# EAGLE library part CD4001BE (library my_devices)
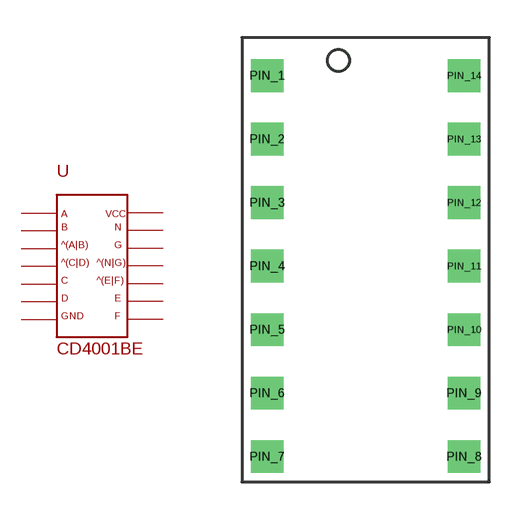
[diagram p5: symbol with the pads of DIP14; footprint DIP14]

Designator prefix U

## CD4001BE  [DIP14]
PIN_1  A
PIN_2  B
PIN_3  AB  out
PIN_4  CD  out
PIN_5  C
PIN_6  D
PIN_7  GND  pwr
PIN_8  F
PIN_9  E
PIN_10  EF  out
PIN_11  NG  out
PIN_12  G
PIN_13  N
PIN_14  VCC  pwr

## Footprint DIP14 (pad centres in mm)
drill 0.8 square: PIN_1 -4.064,7.62; PIN_2 -4.064,5.08; PIN_3 -4.064,2.54; PIN_4 -4.064,0; PIN_5 -4.064,-2.54; PIN_6 -4.064,-5.08; PIN_7 -4.064,-7.62; PIN_8 3.81,-7.62; PIN_9 3.81,-5.08; PIN_10 3.81,-2.54; PIN_11 3.81,0; PIN_12 3.81,2.54; PIN_13 3.81,5.08; PIN_14 3.81,7.62